# EAGLE library part A3967 (library carrilib)
Stepper Motor Driver Manufacturer: Allegro Part Number: A3967
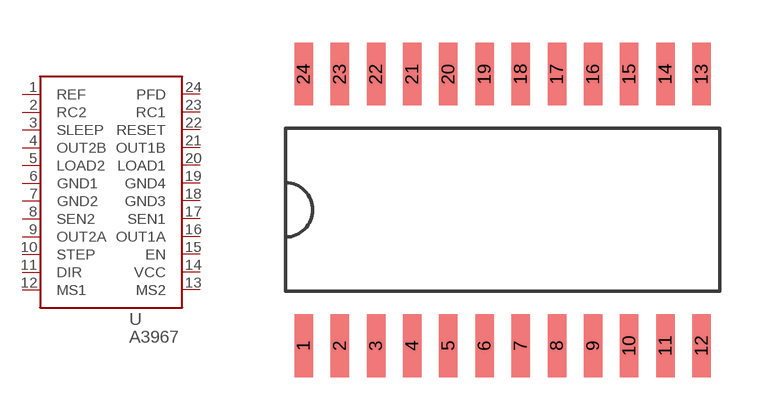
[diagram p21: symbol with the pads of SO24W; footprint SO24W]

Designator prefix U

## A3967  [SO24W]
1  REF
2  RC2
3  SLEEP
4  OUT2B
5  LOAD2
6  GND1
7  GND2
8  SEN2
9  OUT2A
10  STEP
11  DIR
12  MS1
13  MS2
14  VCC
15  EN
16  OUT1A
17  SEN1
18  GND3
19  GND4
20  LOAD1
21  OUT1B
22  RESET
23  RC1
24  PFD

## Footprint SO24W (pad centres in mm)
smd 0.65 x 2.2: 1 -6.985,-4.763; 2 -5.715,-4.763; 3 -4.445,-4.763; 4 -3.175,-4.763; 5 -1.905,-4.763; 6 -0.635,-4.763; 7 0.635,-4.763; 8 1.905,-4.763; 9 3.175,-4.763; 10 4.445,-4.763; 11 5.715,-4.763; 12 6.985,-4.763; 13 6.985,4.763; 14 5.715,4.763; 15 4.445,4.763; 16 3.175,4.763; 17 1.905,4.763; 18 0.635,4.763; 19 -0.635,4.763; 20 -1.905,4.763; 21 -3.175,4.763; 22 -4.445,4.763; 23 -5.715,4.763; 24 -6.985,4.763